# EAGLE library part RFB (library converterModules)
ARTESYN TECH RFB VOLTAGE CONVERTER 9 pin Isolated module (1/2 brick) 18-36V Input, 308W, 16.8-29.4V Output Voltage, 0-11A Output Current DATASHEET: https://www.artesyn.com/power/assets/rfb300_350_ds_1196132025.pdf 1.27493k trim low to 19.45V custom
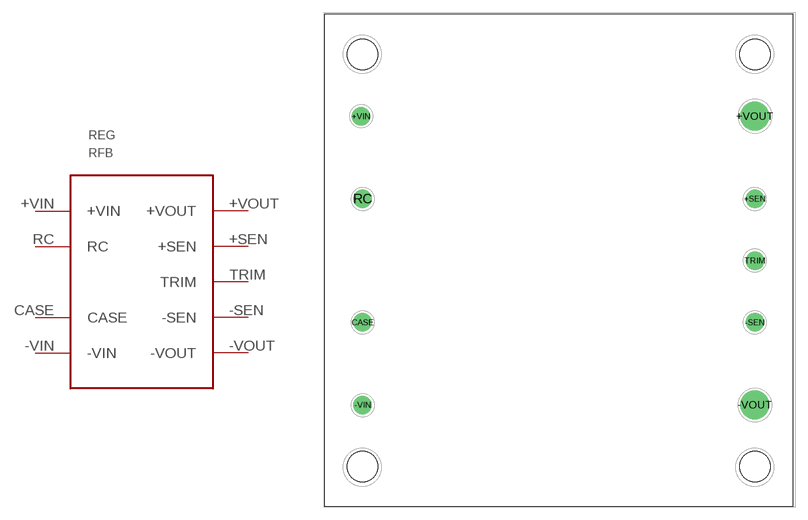
[diagram p2: symbol with the pads of RFB; footprint RFB]

Designator prefix REG

## RFB  [RFB]
+SEN  +SEN
+VIN  +VIN  in
+VOUT  +VOUT  out
-SEN  -SEN
-VIN  -VIN  in
-VOUT  -VOUT  out
CASE  CASE  nc
RC  RC
TRIM  TRIM

## Footprint RFB (pad centres in mm)
ARTESYN TECH RFB VOLTAGE CONVERTER 9 pin Isolated module (1/2 brick)
drill 1.52: +SEN 0,33.02; +VIN -48.46,43.18; -SEN 0,17.78; -VIN -48.26,7.62; CASE -48.26,17.78; RC -48.26,33.02; TRIM 0,25.4
drill 2.56: +VOUT 0,43.18; -VOUT 0,7.62
hole 3.75 at -48.26,50.8
hole 3.75 at -48.26,0
hole 3.75 at 0,50.8
hole 3.75 at 0,0